# EAGLE library part NRF24L01 (library componente)
Modul radio nRF24L01
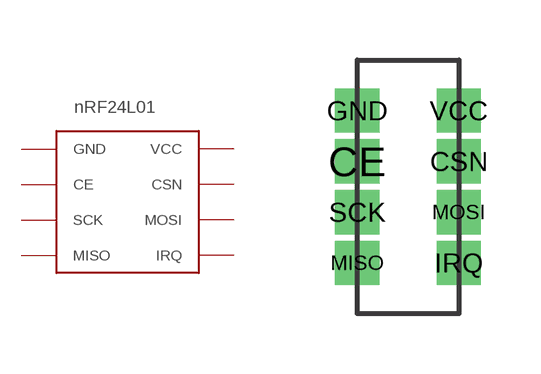
[diagram p1: symbol with the pads of NRF24L01; footprint NRF24L01]

Designator prefix -

## NRF24L01  [NRF24L01]
CE  CE
CSN  CSN
GND  GND
IRQ  IRQ
MISO  MISO
MOSI  MOSI
SCK  SCK
VCC  VCC

## Footprint NRF24L01 (pad centres in mm)
drill 0.6 square: CE -1.27,1.27; CSN 1.27,1.27; GND -1.27,2.54; IRQ 1.27,-1.27; MISO -1.27,-1.27; MOSI 1.27,0; SCK -1.27,0; VCC 1.27,2.54